# EAGLE library part MAX1195ECM+D (library My_Library_SDR)
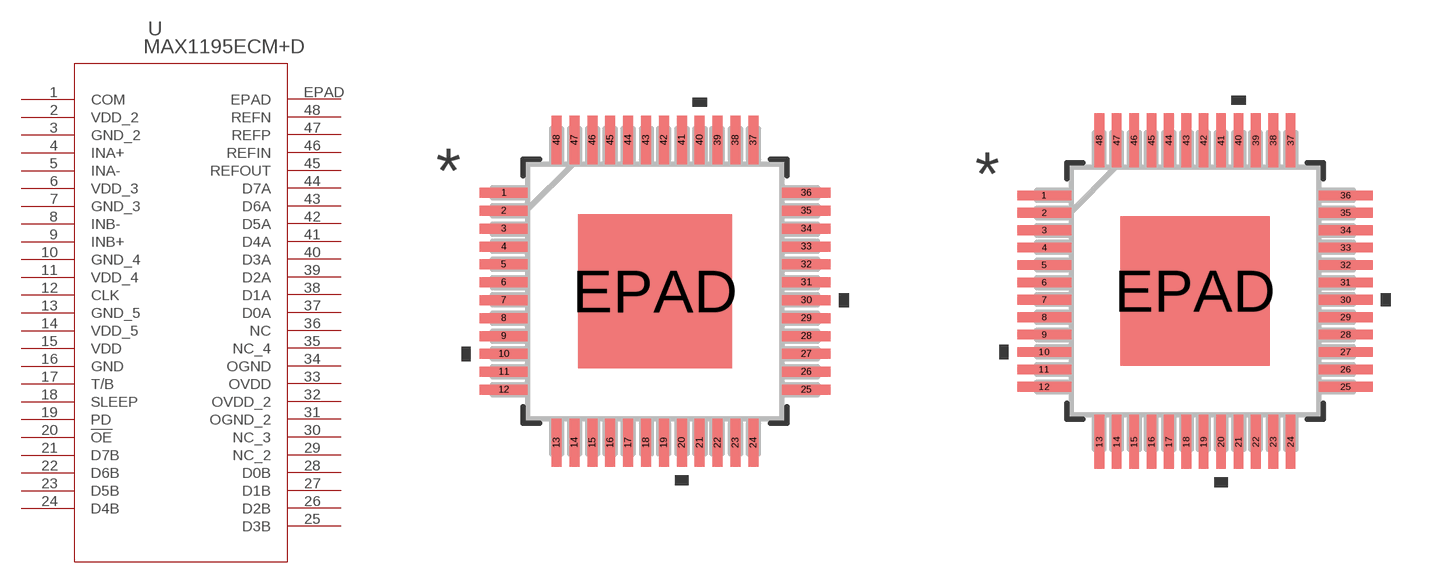
[diagram p6: symbol with the pads of 21-0065_C48E+7_MXM; footprints 21-0065_C48E+7_MXM, 21-0065_C48E+7_MXM-M]

Designator prefix U

## MAX1195ECM+D (COPYRIGHT: Copyright (C) 2025 Ultra Librarian. All rights reserved.; MANUFACTURER_PART_NUMBER: MAX1195ECM+D; MFR_NAME: Analog Devices Inc)  [21-0065_C48E+7_MXM]
1  COM
2  VDD_2  pwr
3  GND_2  pwr
4  INA+  in
5  INA-  in
6  VDD_3  pwr
7  GND_3  pwr
8  INB-  in
9  INB+  in
10  GND_4  pwr
11  VDD_4  pwr
12  CLK
13  GND_5  pwr
14  VDD_5  pwr
15  VDD  pwr
16  GND  pwr
17  T/B
18  SLEEP
19  PD
20  !OE
21  D7B
22  D6B
23  D5B
24  D4B
25  D3B
26  D2B
27  D1B
28  D0B
29  NC_2  pas
30  NC_3  pas
31  OGND_2  pwr
32  OVDD_2  pwr
33  OVDD  pwr
34  OGND  pwr
35  NC_4  pas
36  NC  pas
37  D0A
38  D1A
39  D2A
40  D3A
41  D4A
42  D5A
43  D6A
44  D7A
45  REFOUT  out
46  REFIN  in
47  REFP
48  REFN
EPAD  EPAD  pas

## MAX1195ECM+D21-0065_C48E+7_MXM-M (COPYRIGHT: Copyright (C) 2025 Ultra Librarian. All rights reserved.; MANUFACTURER_PART_NUMBER: MAX1195ECM+D; MFR_NAME: Analog Devices Inc)  [21-0065_C48E+7_MXM-M]
Pads as for 21-0065_C48E+7_MXM

## MAX1195ECM+D21-0065_C48E+7_MXM-L (COPYRIGHT: Copyright (C) 2025 Ultra Librarian. All rights reserved.; MANUFACTURER_PART_NUMBER: MAX1195ECM+D; MFR_NAME: Analog Devices Inc)  [21-0065_C48E+7_MXM-L]
Pads as for 21-0065_C48E+7_MXM

## Footprint 21-0065_C48E+7_MXM (pad centres in mm)
smd 1.346 x 0.279: 1 -4.229,2.75; 2 -4.229,2.25; 3 -4.229,1.75; 4 -4.229,1.25; 5 -4.229,0.75; 6 -4.229,0.25; 7 -4.229,-0.25; 8 -4.229,-0.75; 9 -4.229,-1.25; 10 -4.229,-1.75; 11 -4.229,-2.25; 12 -4.229,-2.75; 25 4.229,-2.75; 26 4.229,-2.25; 27 4.229,-1.75; 28 4.229,-1.25; 29 4.229,-0.75; 30 4.229,-0.25; 31 4.229,0.25; 32 4.229,0.75; 33 4.229,1.25; 34 4.229,1.75; 35 4.229,2.25; 36 4.229,2.75
smd 0.279 x 1.346: 13 -2.75,-4.229; 14 -2.25,-4.229; 15 -1.75,-4.229; 16 -1.25,-4.229; 17 -0.75,-4.229; 18 -0.25,-4.229; 19 0.25,-4.229; 20 0.75,-4.229; 21 1.25,-4.229; 22 1.75,-4.229; 23 2.25,-4.229; 24 2.75,-4.229; 37 2.75,4.229; 38 2.25,4.229; 39 1.75,4.229; 40 1.25,4.229; 41 0.75,4.229; 42 0.25,4.229; 43 -0.25,4.229; 44 -0.75,4.229; 45 -1.25,4.229; 46 -1.75,4.229; 47 -2.25,4.229; 48 -2.75,4.229
smd 4.293 x 4.293: EPAD 0,0

## Footprint 21-0065_C48E+7_MXM-M (pad centres in mm)
smd 1.549 x 0.279: 1 -4.331,2.75; 2 -4.331,2.25; 3 -4.331,1.75; 4 -4.331,1.25; 5 -4.331,0.75; 6 -4.331,0.25; 7 -4.331,-0.25; 8 -4.331,-0.75; 9 -4.331,-1.25; 10 -4.331,-1.75; 11 -4.331,-2.25; 12 -4.331,-2.75; 25 4.331,-2.75; 26 4.331,-2.25; 27 4.331,-1.75; 28 4.331,-1.25; 29 4.331,-0.75; 30 4.331,-0.25; 31 4.331,0.25; 32 4.331,0.75; 33 4.331,1.25; 34 4.331,1.75; 35 4.331,2.25; 36 4.331,2.75
smd 0.279 x 1.549: 13 -2.75,-4.331; 14 -2.25,-4.331; 15 -1.75,-4.331; 16 -1.25,-4.331; 17 -0.75,-4.331; 18 -0.25,-4.331; 19 0.25,-4.331; 20 0.75,-4.331; 21 1.25,-4.331; 22 1.75,-4.331; 23 2.25,-4.331; 24 2.75,-4.331; 37 2.75,4.331; 38 2.25,4.331; 39 1.75,4.331; 40 1.25,4.331; 41 0.75,4.331; 42 0.25,4.331; 43 -0.25,4.331; 44 -0.75,4.331; 45 -1.25,4.331; 46 -1.75,4.331; 47 -2.25,4.331; 48 -2.75,4.331
smd 4.293 x 4.293: EPAD 0,0

## Footprint 21-0065_C48E+7_MXM-L (pad centres in mm)
smd 1.143 x 0.229: 1 -4.128,2.75; 2 -4.128,2.25; 3 -4.128,1.75; 4 -4.128,1.25; 5 -4.128,0.75; 6 -4.128,0.25; 7 -4.128,-0.25; 8 -4.128,-0.75; 9 -4.128,-1.25; 10 -4.128,-1.75; 11 -4.128,-2.25; 12 -4.128,-2.75; 25 4.128,-2.75; 26 4.128,-2.25; 27 4.128,-1.75; 28 4.128,-1.25; 29 4.128,-0.75; 30 4.128,-0.25; 31 4.128,0.25; 32 4.128,0.75; 33 4.128,1.25; 34 4.128,1.75; 35 4.128,2.25; 36 4.128,2.75
smd 0.229 x 1.143: 13 -2.75,-4.128; 14 -2.25,-4.128; 15 -1.75,-4.128; 16 -1.25,-4.128; 17 -0.75,-4.128; 18 -0.25,-4.128; 19 0.25,-4.128; 20 0.75,-4.128; 21 1.25,-4.128; 22 1.75,-4.128; 23 2.25,-4.128; 24 2.75,-4.128; 37 2.75,4.128; 38 2.25,4.128; 39 1.75,4.128; 40 1.25,4.128; 41 0.75,4.128; 42 0.25,4.128; 43 -0.25,4.128; 44 -0.75,4.128; 45 -1.25,4.128; 46 -1.75,4.128; 47 -2.25,4.128; 48 -2.75,4.128
smd 4.293 x 4.293: EPAD 0,0